# EAGLE library part 61202621721 (library Wuerth_Elektronik_eiCan_Wire_to_Board_Connectors)
WR-BHD 2.54mm Male Angled Box Header, 26 Pins=>Code : Con_WTB_BHD_2.54_Male_THT_WS_61202621721 <http://katalog.we-online.de/media/thumbs2/eican/thb_Con_WTB_BHD_2.54_Male_THT_WS_6120xx21721_pf2.jpg> Details see: http://katalog.we-online.de/en/em/612_0xx_217_21 Created 2014-06-05, Karrer Zheng 2014 (C) Würth Elektronik
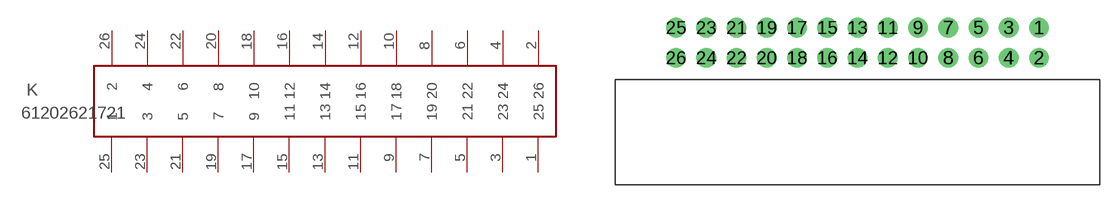
[diagram p166: symbol with the pads of 61202621721; footprint 61202621721]

Designator prefix K

## 61202621721  [61202621721]
1  25  pas
2  26  pas
3  23  pas
4  24  pas
5  21  pas
6  22  pas
7  19  pas
8  20  pas
9  17  pas
10  18  pas
11  15  pas
12  16  pas
13  13  pas
14  14  pas
15  11  pas
16  12  pas
17  9  pas
18  10  pas
19  7  pas
20  8  pas
21  5  pas
22  6  pas
23  3  pas
24  4  pas
25  1  pas
26  2  pas

## Footprint 61202621721 (pad centres in mm)
WR-BHD 2.54mm Male Angled Box Header, 26 Pins
drill 1.1: 1 2.54,1.27; 2 2.54,-1.27; 3 0,1.27; 4 0,-1.27; 5 -2.54,1.27; 6 -2.54,-1.27; 7 -5.08,1.27; 8 -5.08,-1.27; 9 -7.62,1.27; 10 -7.62,-1.27; 11 -10.16,1.27; 12 -10.16,-1.27; 13 -12.7,1.27; 14 -12.7,-1.27; 15 -15.24,1.27; 16 -15.24,-1.27; 17 -17.78,1.27; 18 -17.78,-1.27; 19 -20.32,1.27; 20 -20.32,-1.27; 21 -22.86,1.27; 22 -22.86,-1.27; 23 -25.4,1.27; 24 -25.4,-1.27; 25 -27.94,1.27; 26 -27.94,-1.27